# EAGLE library part DOTSTAR_APA102 (library Ooo-LED)
APA102/DotStar Pixels VCC: 5V DC Refresh Rate: 400Hz
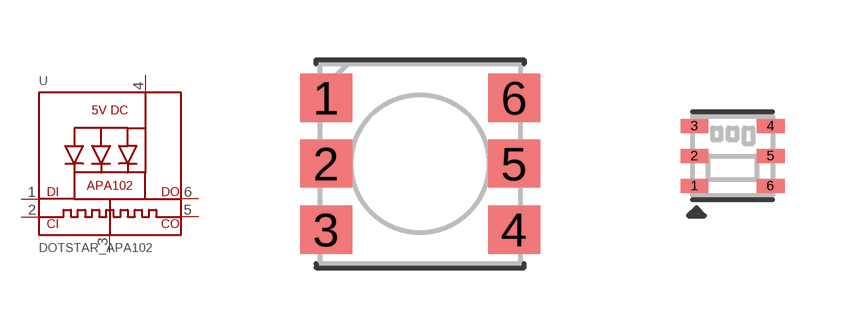
[diagram p0: symbol with the pads of APA102; footprints APA102, APA102_2020]

Designator prefix -

## DOTSTAR_APA102  [APA102]
1  DI  in
2  CKI  in
3  GND  pwr
4  VDD  pwr
5  CKO  out
6  DO  out

## DOTSTAR_APA1022020  [APA102_2020]
1  DO  out
2  CKO  out
3  VDD  pwr
4  GND  pwr
5  CKI  in
6  DI  in

## Footprint APA102 (pad centres in mm)
smd 1.3 x 1.2: 1 -2.35,1.65; 2 -2.35,0; 3 -2.35,-1.65; 4 2.35,-1.65; 5 2.35,0; 6 2.35,1.65

## Footprint APA102_2020 (pad centres in mm)
smd 0.7 x 0.35: 1 -0.95,-0.75; 2 -0.95,0; 3 -0.95,0.75; 4 0.95,0.75; 5 0.95,0; 6 0.95,-0.75